# EAGLE library part MCP1726-3302E/SN (library MCP1726-3302E_SN)
Current LDO Regulator
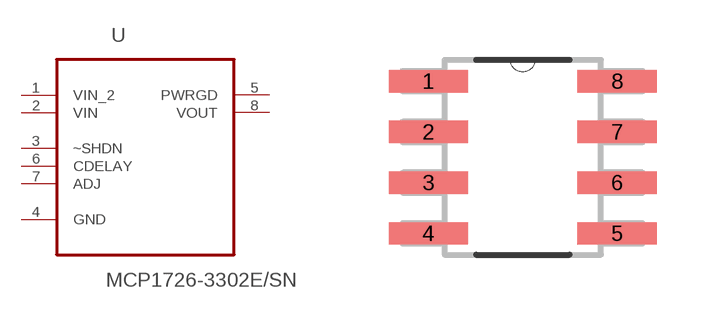
[diagram p0: symbol with the pads of SOIC127P490X175-8N; footprint SOIC127P490X175-8N]

Designator prefix -

## MCP1726-3302E/SN (AVAILABILITY: Good; DESCRIPTION: MCP1726 Series 1 A 3.3 V Fixed Output Surface Mount LDO Regulator - SOIC-8; MF: Microchip; MP: MCP1726-3302E/SN; PACKAGE: SOIC-8 Microchip; PRICE: 0.63 USD)  [SOIC127P490X175-8N]
1  VIN_2  pwr
2  VIN  pwr
3  ~SHDN  in
4  GND  pas
5  PWRGD  out
6  CDELAY  in
7  ADJ  in
8  VOUT  out

## Footprint SOIC127P490X175-8N (pad centres in mm)
smd 1.981 x 0.559: 1 -2.362,1.905; 2 -2.362,0.635; 3 -2.362,-0.635; 4 -2.362,-1.905; 5 2.362,-1.905; 6 2.362,-0.635; 7 2.362,0.635; 8 2.362,1.905